# EAGLE library part AS3901 (library aurigaBot)
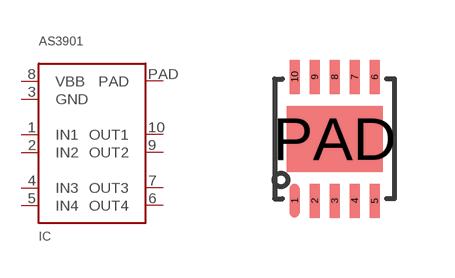
[diagram p14: symbol with the pads of DFN10; footprint DFN10]

Designator prefix IC

## AS3901  [DFN10]
1  IN1
2  IN2
3  GND
4  IN3
5  IN4
6  OUT4
7  OUT3
8  VBB
9  OUT2
10  OUT1
PAD  PAD

## Footprint DFN10 (pad centres in mm)
smd 0.25 x 0.85: 1 -1,-1.55; 2 -0.5,-1.55; 3 0,-1.55; 4 0.5,-1.55; 5 1,-1.55; 6 1,1.55; 7 0.5,1.55; 8 0,1.55; 9 -0.5,1.55; 10 -1,1.55
smd 2.4 x 1.65: PAD 0,0